# EAGLE library part CON03X2 (library Connectors)
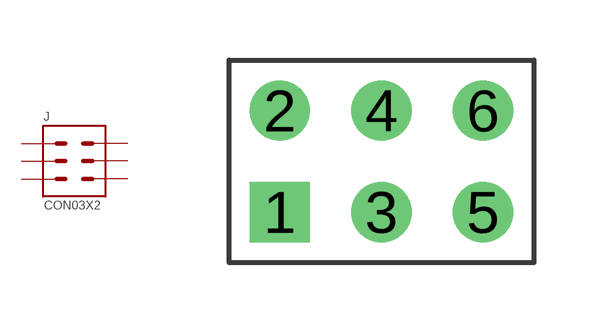
[diagram p4: symbol with the pads of CON03X2_PTH; footprint CON03X2_PTH]

Designator prefix J

## CON03X2PTH  [CON03X2_PTH]
1  P$1
2  P$2
3  P$3
4  P$4
5  P$5
6  P$6

## Footprint CON03X2_PTH (pad centres in mm)
drill 1 square: 1 -2.54,-1.27
drill 1: 2 -2.54,1.27; 3 0,-1.27; 4 0,1.27; 5 2.54,-1.27; 6 2.54,1.27